# Altium integrated library Maxim Supervisors, Voltage Monitors and Sequencers.IntLib: 631 symbols (part 2 of 13)
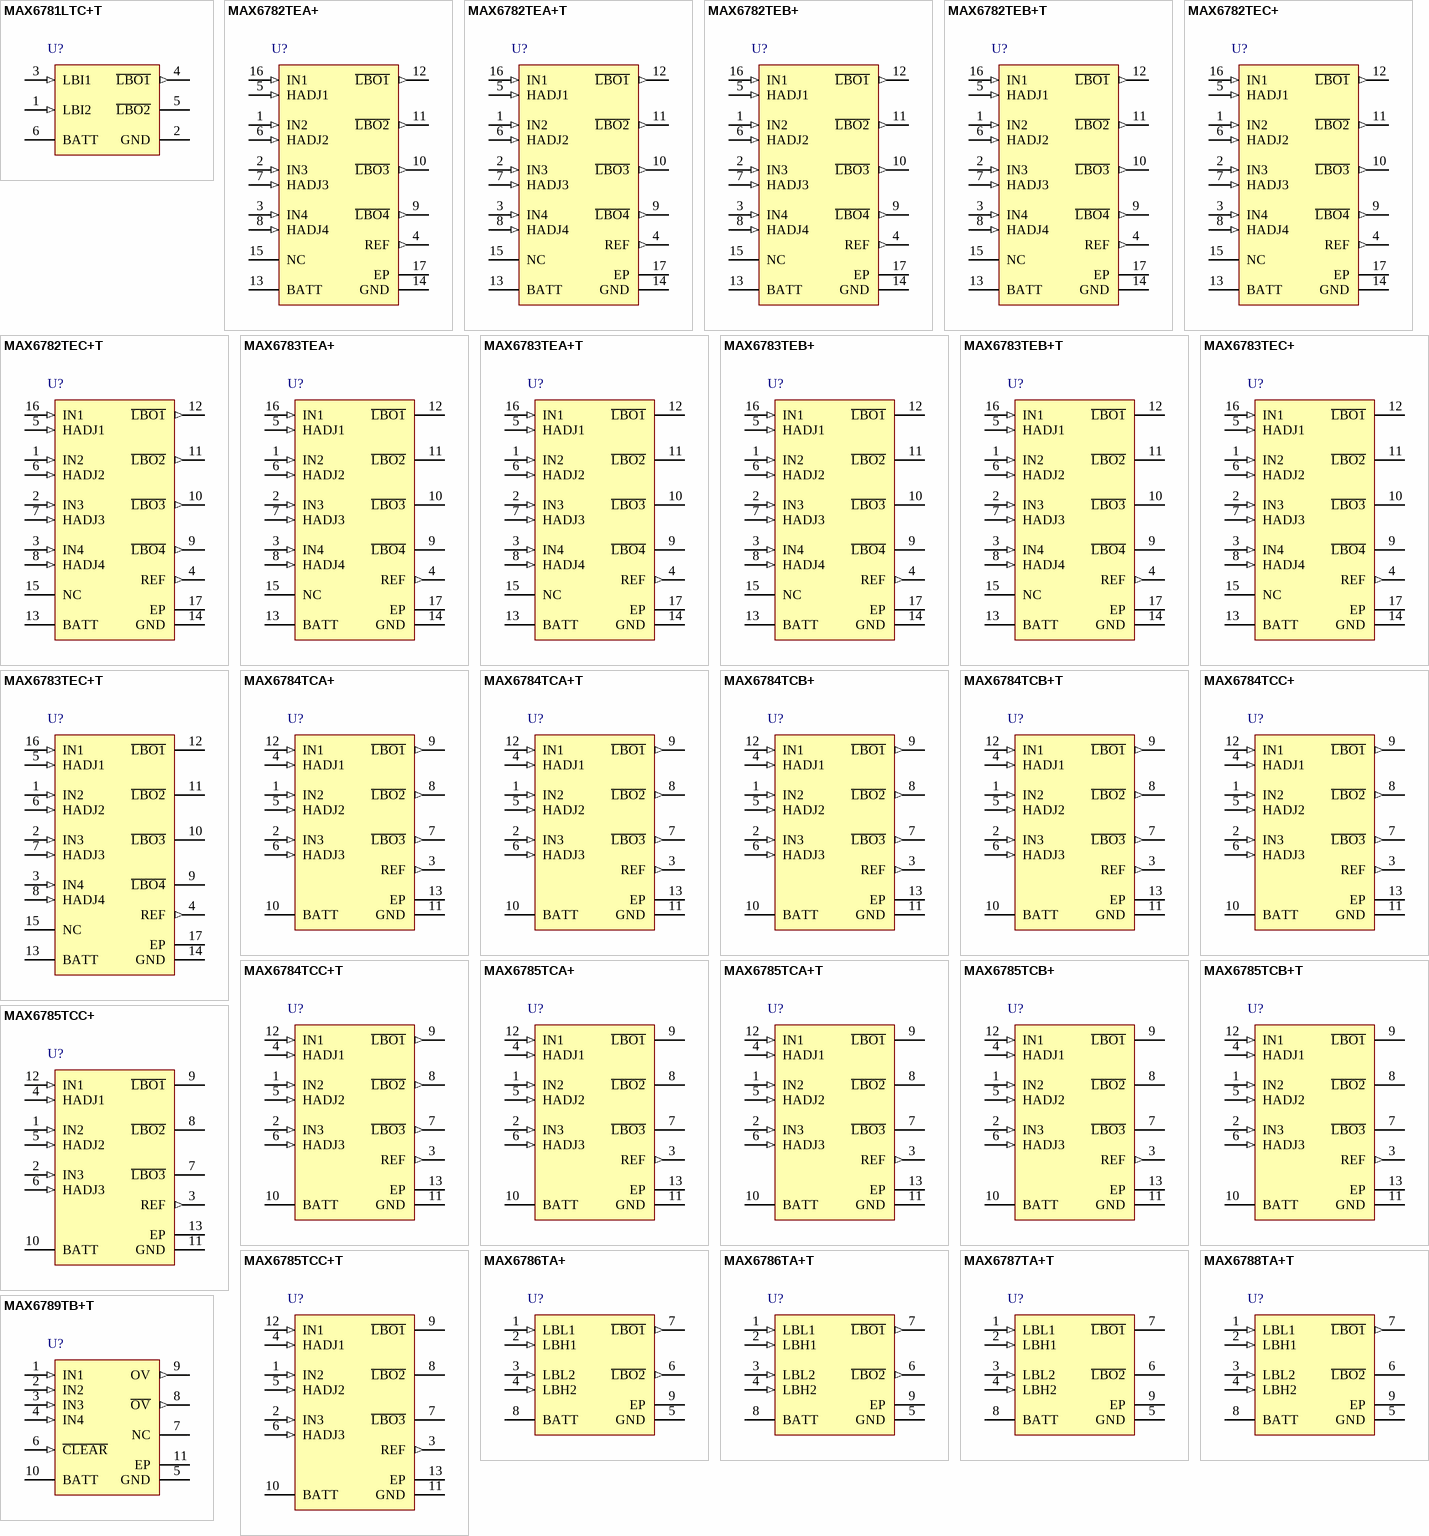
[diagram p18: symbols MAX6781LTC+T to MAX6789TB+T]

## MAX6782TEC+T
designator U?
Low-Power, 1% Accurate, Quad LBO output Level Battery Monitor, Push-Pull output, Fixed/Adj hysteresis, 16-Pin TQFN, -40°C to +85°C, Pb-Free, Tape and Reel; DatasheetVersion: Rev 3, Mar-2010; PackageVersion: revJ, 2010; PackageReference: T1633+4; PackageDescription: 16-Pin Thin Quad Flatpack, No Leads, 3 x 3 x 0.75 mm Body, 0.5 mm Pitch, TQFN, Pb-Free; Code_JEDEC: MO-220WEED-2; ComponentLink1Description: Manufacturer URL; ComponentLink1URL: http://www.maxim-ic.com; ComponentLink2Description: Datasheet; ComponentLink2URL: http://datasheets.maxim-ic.com/en/ds/MAX6782-MAX6790.pdf; ComponentLink3Description: Package Specification; ComponentLink3URL: http://pdfserv.maxim-ic.com/package_dwgs/21-0136.PDF
footprint T1633+4_N (QFN, 16-Leads, Body 3x3mm, Pitch 0.5mm, Thermal Pad 1.1x1.1mm, IPC Medium Density)
footprint T1633+4_L (QFN, 16-Leads, Body 3x3mm, Pitch 0.5mm, Thermal Pad 1.1x1.1mm, IPC High Density)
footprint T1633+4_M (QFN, 16-Leads, Body 3x3mm, Pitch 0.5mm, Thermal Pad 1.1x1.1mm, IPC Low Density)
pins: 1 IN2 (in), 2 IN3 (in), 3 IN4 (in), 4 REF (out), 5 HADJ1 (in), 6 HADJ2 (in), 7 HADJ3 (in), 8 HADJ4 (in), 9 ~{LBO4} (out), 10 ~{LBO3} (out), 11 ~{LBO2} (out), 12 ~{LBO1} (out), 13 BATT (power), 14 GND (power), 15 NC, 16 IN1 (in), 17 EP (power)

## MAX6783TEA+
designator U?
Low-Power, 1% Accurate, Quad LBO output Level Battery Monitor, Open Drain output, Fixed/Adj hysteresis, 16-Pin TQFN, -40°C to +85°C, Pb-Free; DatasheetVersion: Rev 3, Mar-2010; PackageVersion: revJ, 2010; PackageReference: T1633+4; PackageDescription: 16-Pin Thin Quad Flatpack, No Leads, 3 x 3 x 0.75 mm Body, 0.5 mm Pitch, TQFN, Pb-Free; Code_JEDEC: MO-220WEED-2; ComponentLink1Description: Manufacturer URL; ComponentLink1URL: http://www.maxim-ic.com; ComponentLink2Description: Datasheet; ComponentLink2URL: http://datasheets.maxim-ic.com/en/ds/MAX6782-MAX6790.pdf; ComponentLink3Description: Package Specification; ComponentLink3URL: http://pdfserv.maxim-ic.com/package_dwgs/21-0136.PDF
footprint T1633+4_N (QFN, 16-Leads, Body 3x3mm, Pitch 0.5mm, Thermal Pad 1.1x1.1mm, IPC Medium Density)
footprint T1633+4_L (QFN, 16-Leads, Body 3x3mm, Pitch 0.5mm, Thermal Pad 1.1x1.1mm, IPC High Density)
footprint T1633+4_M (QFN, 16-Leads, Body 3x3mm, Pitch 0.5mm, Thermal Pad 1.1x1.1mm, IPC Low Density)
pins: 1 IN2 (in), 2 IN3 (in), 3 IN4 (in), 4 REF (out), 5 HADJ1 (in), 6 HADJ2 (in), 7 HADJ3 (in), 8 HADJ4 (in), 9 ~{LBO4} (oc), 10 ~{LBO3} (oc), 11 ~{LBO2} (oc), 12 ~{LBO1} (oc), 13 BATT (power), 14 GND (power), 15 NC, 16 IN1 (in), 17 EP (power)

## MAX6783TEA+T
designator U?
Low-Power, 1% Accurate, Quad LBO output Level Battery Monitor, Open Drain output, Fixed/Adj hysteresis, 16-Pin TQFN, -40°C to +85°C, Pb-Free, Tape and Reel; DatasheetVersion: Rev 3, Mar-2010; PackageVersion: revJ, 2010; PackageReference: T1633+4; PackageDescription: 16-Pin Thin Quad Flatpack, No Leads, 3 x 3 x 0.75 mm Body, 0.5 mm Pitch, TQFN, Pb-Free; Code_JEDEC: MO-220WEED-2; ComponentLink1Description: Manufacturer URL; ComponentLink1URL: http://www.maxim-ic.com; ComponentLink2Description: Datasheet; ComponentLink2URL: http://datasheets.maxim-ic.com/en/ds/MAX6782-MAX6790.pdf; ComponentLink3Description: Package Specification; ComponentLink3URL: http://pdfserv.maxim-ic.com/package_dwgs/21-0136.PDF
footprint T1633+4_N (QFN, 16-Leads, Body 3x3mm, Pitch 0.5mm, Thermal Pad 1.1x1.1mm, IPC Medium Density)
footprint T1633+4_L (QFN, 16-Leads, Body 3x3mm, Pitch 0.5mm, Thermal Pad 1.1x1.1mm, IPC High Density)
footprint T1633+4_M (QFN, 16-Leads, Body 3x3mm, Pitch 0.5mm, Thermal Pad 1.1x1.1mm, IPC Low Density)
pins: 1 IN2 (in), 2 IN3 (in), 3 IN4 (in), 4 REF (out), 5 HADJ1 (in), 6 HADJ2 (in), 7 HADJ3 (in), 8 HADJ4 (in), 9 ~{LBO4} (oc), 10 ~{LBO3} (oc), 11 ~{LBO2} (oc), 12 ~{LBO1} (oc), 13 BATT (power), 14 GND (power), 15 NC, 16 IN1 (in), 17 EP (power)

## MAX6783TEB+
designator U?
Low-Power, 1% Accurate, Quad LBO output Level Battery Monitor, Open Drain output, Fixed/Adj hysteresis, 16-Pin TQFN, -40°C to +85°C, Pb-Free; DatasheetVersion: Rev 3, Mar-2010; PackageVersion: revJ, 2010; PackageReference: T1633+4; PackageDescription: 16-Pin Thin Quad Flatpack, No Leads, 3 x 3 x 0.75 mm Body, 0.5 mm Pitch, TQFN, Pb-Free; Code_JEDEC: MO-220WEED-2; ComponentLink1Description: Manufacturer URL; ComponentLink1URL: http://www.maxim-ic.com; ComponentLink2Description: Datasheet; ComponentLink2URL: http://datasheets.maxim-ic.com/en/ds/MAX6782-MAX6790.pdf; ComponentLink3Description: Package Specification; ComponentLink3URL: http://pdfserv.maxim-ic.com/package_dwgs/21-0136.PDF
footprint T1633+4_N (QFN, 16-Leads, Body 3x3mm, Pitch 0.5mm, Thermal Pad 1.1x1.1mm, IPC Medium Density)
footprint T1633+4_L (QFN, 16-Leads, Body 3x3mm, Pitch 0.5mm, Thermal Pad 1.1x1.1mm, IPC High Density)
footprint T1633+4_M (QFN, 16-Leads, Body 3x3mm, Pitch 0.5mm, Thermal Pad 1.1x1.1mm, IPC Low Density)
pins: 1 IN2 (in), 2 IN3 (in), 3 IN4 (in), 4 REF (out), 5 HADJ1 (in), 6 HADJ2 (in), 7 HADJ3 (in), 8 HADJ4 (in), 9 ~{LBO4} (oc), 10 ~{LBO3} (oc), 11 ~{LBO2} (oc), 12 ~{LBO1} (oc), 13 BATT (power), 14 GND (power), 15 NC, 16 IN1 (in), 17 EP (power)

## MAX6783TEB+T
designator U?
Low-Power, 1% Accurate, Quad LBO output Level Battery Monitor, Open Drain output, Fixed/Adj hysteresis, 16-Pin TQFN, -40°C to +85°C, Pb-Free, Tape and Reel; DatasheetVersion: Rev 3, Mar-2010; PackageVersion: revJ, 2010; PackageReference: T1633+4; PackageDescription: 16-Pin Thin Quad Flatpack, No Leads, 3 x 3 x 0.75 mm Body, 0.5 mm Pitch, TQFN, Pb-Free; Code_JEDEC: MO-220WEED-2; ComponentLink1Description: Manufacturer URL; ComponentLink1URL: http://www.maxim-ic.com; ComponentLink2Description: Datasheet; ComponentLink2URL: http://datasheets.maxim-ic.com/en/ds/MAX6782-MAX6790.pdf; ComponentLink3Description: Package Specification; ComponentLink3URL: http://pdfserv.maxim-ic.com/package_dwgs/21-0136.PDF
footprint T1633+4_N (QFN, 16-Leads, Body 3x3mm, Pitch 0.5mm, Thermal Pad 1.1x1.1mm, IPC Medium Density)
footprint T1633+4_L (QFN, 16-Leads, Body 3x3mm, Pitch 0.5mm, Thermal Pad 1.1x1.1mm, IPC High Density)
footprint T1633+4_M (QFN, 16-Leads, Body 3x3mm, Pitch 0.5mm, Thermal Pad 1.1x1.1mm, IPC Low Density)
pins: 1 IN2 (in), 2 IN3 (in), 3 IN4 (in), 4 REF (out), 5 HADJ1 (in), 6 HADJ2 (in), 7 HADJ3 (in), 8 HADJ4 (in), 9 ~{LBO4} (oc), 10 ~{LBO3} (oc), 11 ~{LBO2} (oc), 12 ~{LBO1} (oc), 13 BATT (power), 14 GND (power), 15 NC, 16 IN1 (in), 17 EP (power)

## MAX6783TEC+
designator U?
Low-Power, 1% Accurate, Quad LBO output Level Battery Monitor, Open Drain output, Fixed/Adj hysteresis, 16-Pin TQFN, -40°C to +85°C, Pb-Free; DatasheetVersion: Rev 3, Mar-2010; PackageVersion: revJ, 2010; PackageReference: T1633+4; PackageDescription: 16-Pin Thin Quad Flatpack, No Leads, 3 x 3 x 0.75 mm Body, 0.5 mm Pitch, TQFN, Pb-Free; Code_JEDEC: MO-220WEED-2; ComponentLink1Description: Manufacturer URL; ComponentLink1URL: http://www.maxim-ic.com; ComponentLink2Description: Datasheet; ComponentLink2URL: http://datasheets.maxim-ic.com/en/ds/MAX6782-MAX6790.pdf; ComponentLink3Description: Package Specification; ComponentLink3URL: http://pdfserv.maxim-ic.com/package_dwgs/21-0136.PDF
footprint T1633+4_N (QFN, 16-Leads, Body 3x3mm, Pitch 0.5mm, Thermal Pad 1.1x1.1mm, IPC Medium Density)
footprint T1633+4_L (QFN, 16-Leads, Body 3x3mm, Pitch 0.5mm, Thermal Pad 1.1x1.1mm, IPC High Density)
footprint T1633+4_M (QFN, 16-Leads, Body 3x3mm, Pitch 0.5mm, Thermal Pad 1.1x1.1mm, IPC Low Density)
pins: 1 IN2 (in), 2 IN3 (in), 3 IN4 (in), 4 REF (out), 5 HADJ1 (in), 6 HADJ2 (in), 7 HADJ3 (in), 8 HADJ4 (in), 9 ~{LBO4} (oc), 10 ~{LBO3} (oc), 11 ~{LBO2} (oc), 12 ~{LBO1} (oc), 13 BATT (power), 14 GND (power), 15 NC, 16 IN1 (in), 17 EP (power)

## MAX6783TEC+T
designator U?
Low-Power, 1% Accurate, Quad LBO output Level Battery Monitor, Open Drain output, Fixed/Adj hysteresis, 16-Pin TQFN, -40°C to +85°C, Pb-Free, Tape and Reel; DatasheetVersion: Rev 3, Mar-2010; PackageVersion: revJ, 2010; PackageReference: T1633+4; PackageDescription: 16-Pin Thin Quad Flatpack, No Leads, 3 x 3 x 0.75 mm Body, 0.5 mm Pitch, TQFN, Pb-Free; Code_JEDEC: MO-220WEED-2; ComponentLink1Description: Manufacturer URL; ComponentLink1URL: http://www.maxim-ic.com; ComponentLink2Description: Datasheet; ComponentLink2URL: http://datasheets.maxim-ic.com/en/ds/MAX6782-MAX6790.pdf; ComponentLink3Description: Package Specification; ComponentLink3URL: http://pdfserv.maxim-ic.com/package_dwgs/21-0136.PDF
footprint T1633+4_N (QFN, 16-Leads, Body 3x3mm, Pitch 0.5mm, Thermal Pad 1.1x1.1mm, IPC Medium Density)
footprint T1633+4_L (QFN, 16-Leads, Body 3x3mm, Pitch 0.5mm, Thermal Pad 1.1x1.1mm, IPC High Density)
footprint T1633+4_M (QFN, 16-Leads, Body 3x3mm, Pitch 0.5mm, Thermal Pad 1.1x1.1mm, IPC Low Density)
pins: 1 IN2 (in), 2 IN3 (in), 3 IN4 (in), 4 REF (out), 5 HADJ1 (in), 6 HADJ2 (in), 7 HADJ3 (in), 8 HADJ4 (in), 9 ~{LBO4} (oc), 10 ~{LBO3} (oc), 11 ~{LBO2} (oc), 12 ~{LBO1} (oc), 13 BATT (power), 14 GND (power), 15 NC, 16 IN1 (in), 17 EP (power)

## MAX6784TCA+
designator U?
Low-Power, 1% Accurate, Triple LBO output Level Battery Monitor, Push-Pull output, Fixed/Adj hysteresis, 12-Pin TQFN-EP, -40°C to +85°C, Pb-Free; DatasheetVersion: Rev 3, Mar-2010; PackageVersion: revJ, 2010; PackageReference: T1233+1; PackageDescription: 12-Pin Thin Quad Flatpack, No Leads, 3 x 3 x 0.75 mm Body, 0.5 mm Pitch, TQFN, Pb-Free; Code_JEDEC: MO-220WEED-1; ComponentLink1Description: Manufacturer URL; ComponentLink1URL: http://www.maxim-ic.com; ComponentLink2Description: Datasheet; ComponentLink2URL: http://datasheets.maxim-ic.com/en/ds/MAX6782-MAX6790.pdf; ComponentLink3Description: Package Specification; ComponentLink3URL: http://pdfserv.maxim-ic.com/package_dwgs/21-0136.PDF
footprint T1233+1_N (QFN, 12-Leads, Body 3x3mm, Pitch 0.5mm, Thermal Pad 1.1x1.1mm, IPC Medium Density)
footprint T1233+1_L (QFN, 12-Leads, Body 3x3mm, Pitch 0.5mm, Thermal Pad 1.1x1.1mm, IPC High Density)
footprint T1233+1_M (QFN, 12-Leads, Body 3x3mm, Pitch 0.5mm, Thermal Pad 1.1x1.1mm, IPC Low Density)
pins: 1 IN2 (in), 2 IN3 (in), 3 REF (out), 4 HADJ1 (in), 5 HADJ2 (in), 6 HADJ3 (in), 7 ~{LBO3} (out), 8 ~{LBO2} (out), 9 ~{LBO1} (out), 10 BATT (power), 11 GND (power), 12 IN1 (in), 13 EP (power)

## MAX6784TCA+T
designator U?
Low-Power, 1% Accurate, Triple LBO output Level Battery Monitor, Push-Pull output, Fixed/Adj hysteresis, 12-Pin TQFN-EP, -40°C to +85°C, Pb-Free, Tape and Reel; DatasheetVersion: Rev 3, Mar-2010; PackageVersion: revJ, 2010; PackageReference: T1233+1; PackageDescription: 12-Pin Thin Quad Flatpack, No Leads, 3 x 3 x 0.75 mm Body, 0.5 mm Pitch, TQFN, Pb-Free; Code_JEDEC: MO-220WEED-1; ComponentLink1Description: Manufacturer URL; ComponentLink1URL: http://www.maxim-ic.com; ComponentLink2Description: Datasheet; ComponentLink2URL: http://datasheets.maxim-ic.com/en/ds/MAX6782-MAX6790.pdf; ComponentLink3Description: Package Specification; ComponentLink3URL: http://pdfserv.maxim-ic.com/package_dwgs/21-0136.PDF
footprint T1233+1_N (QFN, 12-Leads, Body 3x3mm, Pitch 0.5mm, Thermal Pad 1.1x1.1mm, IPC Medium Density)
footprint T1233+1_L (QFN, 12-Leads, Body 3x3mm, Pitch 0.5mm, Thermal Pad 1.1x1.1mm, IPC High Density)
footprint T1233+1_M (QFN, 12-Leads, Body 3x3mm, Pitch 0.5mm, Thermal Pad 1.1x1.1mm, IPC Low Density)
pins: 1 IN2 (in), 2 IN3 (in), 3 REF (out), 4 HADJ1 (in), 5 HADJ2 (in), 6 HADJ3 (in), 7 ~{LBO3} (out), 8 ~{LBO2} (out), 9 ~{LBO1} (out), 10 BATT (power), 11 GND (power), 12 IN1 (in), 13 EP (power)

## MAX6784TCB+
designator U?
Low-Power, 1% Accurate, Triple LBO output Level Battery Monitor, Push-Pull output, Fixed/Adj hysteresis, 12-Pin TQFN-EP, -40°C to +85°C, Pb-Free; DatasheetVersion: Rev 3, Mar-2010; PackageVersion: revJ, 2010; PackageReference: T1233+1; PackageDescription: 12-Pin Thin Quad Flatpack, No Leads, 3 x 3 x 0.75 mm Body, 0.5 mm Pitch, TQFN, Pb-Free; Code_JEDEC: MO-220WEED-1; ComponentLink1Description: Manufacturer URL; ComponentLink1URL: http://www.maxim-ic.com; ComponentLink2Description: Datasheet; ComponentLink2URL: http://datasheets.maxim-ic.com/en/ds/MAX6782-MAX6790.pdf; ComponentLink3Description: Package Specification; ComponentLink3URL: http://pdfserv.maxim-ic.com/package_dwgs/21-0136.PDF
footprint T1233+1_N (QFN, 12-Leads, Body 3x3mm, Pitch 0.5mm, Thermal Pad 1.1x1.1mm, IPC Medium Density)
footprint T1233+1_L (QFN, 12-Leads, Body 3x3mm, Pitch 0.5mm, Thermal Pad 1.1x1.1mm, IPC High Density)
footprint T1233+1_M (QFN, 12-Leads, Body 3x3mm, Pitch 0.5mm, Thermal Pad 1.1x1.1mm, IPC Low Density)
pins: 1 IN2 (in), 2 IN3 (in), 3 REF (out), 4 HADJ1 (in), 5 HADJ2 (in), 6 HADJ3 (in), 7 ~{LBO3} (out), 8 ~{LBO2} (out), 9 ~{LBO1} (out), 10 BATT (power), 11 GND (power), 12 IN1 (in), 13 EP (power)

## MAX6784TCB+T
designator U?
Low-Power, 1% Accurate, Triple LBO output Level Battery Monitor, Push-Pull output, Fixed/Adj hysteresis, 12-Pin TQFN-EP, -40°C to +85°C, Pb-Free, Tape and Reel; DatasheetVersion: Rev 3, Mar-2010; PackageVersion: revJ, 2010; PackageReference: T1233+1; PackageDescription: 12-Pin Thin Quad Flatpack, No Leads, 3 x 3 x 0.75 mm Body, 0.5 mm Pitch, TQFN, Pb-Free; Code_JEDEC: MO-220WEED-1; ComponentLink1Description: Manufacturer URL; ComponentLink1URL: http://www.maxim-ic.com; ComponentLink2Description: Datasheet; ComponentLink2URL: http://datasheets.maxim-ic.com/en/ds/MAX6782-MAX6790.pdf; ComponentLink3Description: Package Specification; ComponentLink3URL: http://pdfserv.maxim-ic.com/package_dwgs/21-0136.PDF
footprint T1233+1_N (QFN, 12-Leads, Body 3x3mm, Pitch 0.5mm, Thermal Pad 1.1x1.1mm, IPC Medium Density)
footprint T1233+1_L (QFN, 12-Leads, Body 3x3mm, Pitch 0.5mm, Thermal Pad 1.1x1.1mm, IPC High Density)
footprint T1233+1_M (QFN, 12-Leads, Body 3x3mm, Pitch 0.5mm, Thermal Pad 1.1x1.1mm, IPC Low Density)
pins: 1 IN2 (in), 2 IN3 (in), 3 REF (out), 4 HADJ1 (in), 5 HADJ2 (in), 6 HADJ3 (in), 7 ~{LBO3} (out), 8 ~{LBO2} (out), 9 ~{LBO1} (out), 10 BATT (power), 11 GND (power), 12 IN1 (in), 13 EP (power)

## MAX6784TCC+
designator U?
Low-Power, 1% Accurate, Triple LBO output Level Battery Monitor, Push-Pull output, Fixed/Adj hysteresis, 12-Pin TQFN-EP, -40°C to +85°C, Pb-Free; DatasheetVersion: Rev 3, Mar-2010; PackageVersion: revJ, 2010; PackageReference: T1233+1; PackageDescription: 12-Pin Thin Quad Flatpack, No Leads, 3 x 3 x 0.75 mm Body, 0.5 mm Pitch, TQFN, Pb-Free; Code_JEDEC: MO-220WEED-1; ComponentLink1Description: Manufacturer URL; ComponentLink1URL: http://www.maxim-ic.com; ComponentLink2Description: Datasheet; ComponentLink2URL: http://datasheets.maxim-ic.com/en/ds/MAX6782-MAX6790.pdf; ComponentLink3Description: Package Specification; ComponentLink3URL: http://pdfserv.maxim-ic.com/package_dwgs/21-0136.PDF
footprint T1233+1_N (QFN, 12-Leads, Body 3x3mm, Pitch 0.5mm, Thermal Pad 1.1x1.1mm, IPC Medium Density)
footprint T1233+1_L (QFN, 12-Leads, Body 3x3mm, Pitch 0.5mm, Thermal Pad 1.1x1.1mm, IPC High Density)
footprint T1233+1_M (QFN, 12-Leads, Body 3x3mm, Pitch 0.5mm, Thermal Pad 1.1x1.1mm, IPC Low Density)
pins: 1 IN2 (in), 2 IN3 (in), 3 REF (out), 4 HADJ1 (in), 5 HADJ2 (in), 6 HADJ3 (in), 7 ~{LBO3} (out), 8 ~{LBO2} (out), 9 ~{LBO1} (out), 10 BATT (power), 11 GND (power), 12 IN1 (in), 13 EP (power)

## MAX6784TCC+T
designator U?
Low-Power, 1% Accurate, Triple LBO output Level Battery Monitor, Push-Pull output, Fixed/Adj hysteresis, 12-Pin TQFN-EP, -40°C to +85°C, Pb-Free, Tape and Reel; DatasheetVersion: Rev 3, Mar-2010; PackageVersion: revJ, 2010; PackageReference: T1233+1; PackageDescription: 12-Pin Thin Quad Flatpack, No Leads, 3 x 3 x 0.75 mm Body, 0.5 mm Pitch, TQFN, Pb-Free; Code_JEDEC: MO-220WEED-1; ComponentLink1Description: Manufacturer URL; ComponentLink1URL: http://www.maxim-ic.com; ComponentLink2Description: Datasheet; ComponentLink2URL: http://datasheets.maxim-ic.com/en/ds/MAX6782-MAX6790.pdf; ComponentLink3Description: Package Specification; ComponentLink3URL: http://pdfserv.maxim-ic.com/package_dwgs/21-0136.PDF
footprint T1233+1_N (QFN, 12-Leads, Body 3x3mm, Pitch 0.5mm, Thermal Pad 1.1x1.1mm, IPC Medium Density)
footprint T1233+1_L (QFN, 12-Leads, Body 3x3mm, Pitch 0.5mm, Thermal Pad 1.1x1.1mm, IPC High Density)
footprint T1233+1_M (QFN, 12-Leads, Body 3x3mm, Pitch 0.5mm, Thermal Pad 1.1x1.1mm, IPC Low Density)
pins: 1 IN2 (in), 2 IN3 (in), 3 REF (out), 4 HADJ1 (in), 5 HADJ2 (in), 6 HADJ3 (in), 7 ~{LBO3} (out), 8 ~{LBO2} (out), 9 ~{LBO1} (out), 10 BATT (power), 11 GND (power), 12 IN1 (in), 13 EP (power)

## MAX6785TCA+
designator U?
Low-Power, 1% Accurate, Triple LBO output Level Battery Monitor, Open Drain output, Fixed/Adj hysteresis, 12-Pin TQFN-EP, -40°C to +85°C, Pb-Free; DatasheetVersion: Rev 3, Mar-2010; PackageVersion: revJ, 2010; PackageReference: T1233+1; PackageDescription: 12-Pin Thin Quad Flatpack, No Leads, 3 x 3 x 0.75 mm Body, 0.5 mm Pitch, TQFN, Pb-Free; Code_JEDEC: MO-220WEED-1; ComponentLink1Description: Manufacturer URL; ComponentLink1URL: http://www.maxim-ic.com; ComponentLink2Description: Datasheet; ComponentLink2URL: http://datasheets.maxim-ic.com/en/ds/MAX6782-MAX6790.pdf; ComponentLink3Description: Package Specification; ComponentLink3URL: http://pdfserv.maxim-ic.com/package_dwgs/21-0136.PDF
footprint T1233+1_N (QFN, 12-Leads, Body 3x3mm, Pitch 0.5mm, Thermal Pad 1.1x1.1mm, IPC Medium Density)
footprint T1233+1_L (QFN, 12-Leads, Body 3x3mm, Pitch 0.5mm, Thermal Pad 1.1x1.1mm, IPC High Density)
footprint T1233+1_M (QFN, 12-Leads, Body 3x3mm, Pitch 0.5mm, Thermal Pad 1.1x1.1mm, IPC Low Density)
pins: 1 IN2 (in), 2 IN3 (in), 3 REF (out), 4 HADJ1 (in), 5 HADJ2 (in), 6 HADJ3 (in), 7 ~{LBO3} (oc), 8 ~{LBO2} (oc), 9 ~{LBO1} (oc), 10 BATT (power), 11 GND (power), 12 IN1 (in), 13 EP (power)

## MAX6785TCA+T
designator U?
Low-Power, 1% Accurate, Triple LBO output Level Battery Monitor, Open Drain output, Fixed/Adj hysteresis, 12-Pin TQFN-EP, -40°C to +85°C, Pb-Free, Tape and Reel; DatasheetVersion: Rev 3, Mar-2010; PackageVersion: revJ, 2010; PackageReference: T1233+1; PackageDescription: 12-Pin Thin Quad Flatpack, No Leads, 3 x 3 x 0.75 mm Body, 0.5 mm Pitch, TQFN, Pb-Free; Code_JEDEC: MO-220WEED-1; ComponentLink1Description: Manufacturer URL; ComponentLink1URL: http://www.maxim-ic.com; ComponentLink2Description: Datasheet; ComponentLink2URL: http://datasheets.maxim-ic.com/en/ds/MAX6782-MAX6790.pdf; ComponentLink3Description: Package Specification; ComponentLink3URL: http://pdfserv.maxim-ic.com/package_dwgs/21-0136.PDF
footprint T1233+1_N (QFN, 12-Leads, Body 3x3mm, Pitch 0.5mm, Thermal Pad 1.1x1.1mm, IPC Medium Density)
footprint T1233+1_L (QFN, 12-Leads, Body 3x3mm, Pitch 0.5mm, Thermal Pad 1.1x1.1mm, IPC High Density)
footprint T1233+1_M (QFN, 12-Leads, Body 3x3mm, Pitch 0.5mm, Thermal Pad 1.1x1.1mm, IPC Low Density)
pins: 1 IN2 (in), 2 IN3 (in), 3 REF (out), 4 HADJ1 (in), 5 HADJ2 (in), 6 HADJ3 (in), 7 ~{LBO3} (oc), 8 ~{LBO2} (oc), 9 ~{LBO1} (oc), 10 BATT (power), 11 GND (power), 12 IN1 (in), 13 EP (power)

## MAX6785TCB+
designator U?
Low-Power, 1% Accurate, Triple LBO output Level Battery Monitor, Open Drain output, Fixed/Adj hysteresis, 12-Pin TQFN-EP, -40°C to +85°C, Pb-Free; DatasheetVersion: Rev 3, Mar-2010; PackageVersion: revJ, 2010; PackageReference: T1233+1; PackageDescription: 12-Pin Thin Quad Flatpack, No Leads, 3 x 3 x 0.75 mm Body, 0.5 mm Pitch, TQFN, Pb-Free; Code_JEDEC: MO-220WEED-1; ComponentLink1Description: Manufacturer URL; ComponentLink1URL: http://www.maxim-ic.com; ComponentLink2Description: Datasheet; ComponentLink2URL: http://datasheets.maxim-ic.com/en/ds/MAX6782-MAX6790.pdf; ComponentLink3Description: Package Specification; ComponentLink3URL: http://pdfserv.maxim-ic.com/package_dwgs/21-0136.PDF
footprint T1233+1_N (QFN, 12-Leads, Body 3x3mm, Pitch 0.5mm, Thermal Pad 1.1x1.1mm, IPC Medium Density)
footprint T1233+1_L (QFN, 12-Leads, Body 3x3mm, Pitch 0.5mm, Thermal Pad 1.1x1.1mm, IPC High Density)
footprint T1233+1_M (QFN, 12-Leads, Body 3x3mm, Pitch 0.5mm, Thermal Pad 1.1x1.1mm, IPC Low Density)
pins: 1 IN2 (in), 2 IN3 (in), 3 REF (out), 4 HADJ1 (in), 5 HADJ2 (in), 6 HADJ3 (in), 7 ~{LBO3} (oc), 8 ~{LBO2} (oc), 9 ~{LBO1} (oc), 10 BATT (power), 11 GND (power), 12 IN1 (in), 13 EP (power)

## MAX6785TCB+T
designator U?
Low-Power, 1% Accurate, Triple LBO output Level Battery Monitor, Open Drain output, Fixed/Adj hysteresis, 12-Pin TQFN-EP, -40°C to +85°C, Pb-Free, Tape and Reel; DatasheetVersion: Rev 3, Mar-2010; PackageVersion: revJ, 2010; PackageReference: T1233+1; PackageDescription: 12-Pin Thin Quad Flatpack, No Leads, 3 x 3 x 0.75 mm Body, 0.5 mm Pitch, TQFN, Pb-Free; Code_JEDEC: MO-220WEED-1; ComponentLink1Description: Manufacturer URL; ComponentLink1URL: http://www.maxim-ic.com; ComponentLink2Description: Datasheet; ComponentLink2URL: http://datasheets.maxim-ic.com/en/ds/MAX6782-MAX6790.pdf; ComponentLink3Description: Package Specification; ComponentLink3URL: http://pdfserv.maxim-ic.com/package_dwgs/21-0136.PDF
footprint T1233+1_N (QFN, 12-Leads, Body 3x3mm, Pitch 0.5mm, Thermal Pad 1.1x1.1mm, IPC Medium Density)
footprint T1233+1_L (QFN, 12-Leads, Body 3x3mm, Pitch 0.5mm, Thermal Pad 1.1x1.1mm, IPC High Density)
footprint T1233+1_M (QFN, 12-Leads, Body 3x3mm, Pitch 0.5mm, Thermal Pad 1.1x1.1mm, IPC Low Density)
pins: 1 IN2 (in), 2 IN3 (in), 3 REF (out), 4 HADJ1 (in), 5 HADJ2 (in), 6 HADJ3 (in), 7 ~{LBO3} (oc), 8 ~{LBO2} (oc), 9 ~{LBO1} (oc), 10 BATT (power), 11 GND (power), 12 IN1 (in), 13 EP (power)

## MAX6785TCC+
designator U?
Low-Power, 1% Accurate, Triple LBO output Level Battery Monitor, Open Drain output, Fixed/Adj hysteresis, 12-Pin TQFN-EP, -40°C to +85°C, Pb-Free; DatasheetVersion: Rev 3, Mar-2010; PackageVersion: revJ, 2010; PackageReference: T1233+1; PackageDescription: 12-Pin Thin Quad Flatpack, No Leads, 3 x 3 x 0.75 mm Body, 0.5 mm Pitch, TQFN, Pb-Free; Code_JEDEC: MO-220WEED-1; ComponentLink1Description: Manufacturer URL; ComponentLink1URL: http://www.maxim-ic.com; ComponentLink2Description: Datasheet; ComponentLink2URL: http://datasheets.maxim-ic.com/en/ds/MAX6782-MAX6790.pdf; ComponentLink3Description: Package Specification; ComponentLink3URL: http://pdfserv.maxim-ic.com/package_dwgs/21-0136.PDF
footprint T1233+1_N (QFN, 12-Leads, Body 3x3mm, Pitch 0.5mm, Thermal Pad 1.1x1.1mm, IPC Medium Density)
footprint T1233+1_L (QFN, 12-Leads, Body 3x3mm, Pitch 0.5mm, Thermal Pad 1.1x1.1mm, IPC High Density)
footprint T1233+1_M (QFN, 12-Leads, Body 3x3mm, Pitch 0.5mm, Thermal Pad 1.1x1.1mm, IPC Low Density)
pins: 1 IN2 (in), 2 IN3 (in), 3 REF (out), 4 HADJ1 (in), 5 HADJ2 (in), 6 HADJ3 (in), 7 ~{LBO3} (oc), 8 ~{LBO2} (oc), 9 ~{LBO1} (oc), 10 BATT (power), 11 GND (power), 12 IN1 (in), 13 EP (power)

## MAX6785TCC+T
designator U?
Low-Power, 1% Accurate, Triple LBO output Level Battery Monitor, Open Drain output, Fixed/Adj hysteresis, 12-Pin TQFN-EP, -40°C to +85°C, Pb-Free, Tape and Reel; DatasheetVersion: Rev 3, Mar-2010; PackageVersion: revJ, 2010; PackageReference: T1233+1; PackageDescription: 12-Pin Thin Quad Flatpack, No Leads, 3 x 3 x 0.75 mm Body, 0.5 mm Pitch, TQFN, Pb-Free; Code_JEDEC: MO-220WEED-1; ComponentLink1Description: Manufacturer URL; ComponentLink1URL: http://www.maxim-ic.com; ComponentLink2Description: Datasheet; ComponentLink2URL: http://datasheets.maxim-ic.com/en/ds/MAX6782-MAX6790.pdf; ComponentLink3Description: Package Specification; ComponentLink3URL: http://pdfserv.maxim-ic.com/package_dwgs/21-0136.PDF
footprint T1233+1_N (QFN, 12-Leads, Body 3x3mm, Pitch 0.5mm, Thermal Pad 1.1x1.1mm, IPC Medium Density)
footprint T1233+1_L (QFN, 12-Leads, Body 3x3mm, Pitch 0.5mm, Thermal Pad 1.1x1.1mm, IPC High Density)
footprint T1233+1_M (QFN, 12-Leads, Body 3x3mm, Pitch 0.5mm, Thermal Pad 1.1x1.1mm, IPC Low Density)
pins: 1 IN2 (in), 2 IN3 (in), 3 REF (out), 4 HADJ1 (in), 5 HADJ2 (in), 6 HADJ3 (in), 7 ~{LBO3} (oc), 8 ~{LBO2} (oc), 9 ~{LBO1} (oc), 10 BATT (power), 11 GND (power), 12 IN1 (in), 13 EP (power)

## MAX6786TA+
designator U?
Low-Power, 1% Accurate, Dual LBO output Level Battery Monitor, Push-Pull output, Adj hysteresis, 8-Pin TDFN, -40°C to +85°C, Pb-Free; DatasheetVersion: Rev 3, Mar-2010; PackageVersion: revJ, 2009; PackageReference: T833+3; PackageDescription: 8-Pin Plastic Very Very Thin Dual Flatpack No Leads, Exposed Pad, 3 x 3 x 0.8 mm Body, TDFN-EP, Pb-Free; Code_JEDEC: MO-229-WEEC; ComponentLink1Description: Manufacturer URL; ComponentLink1URL: http://www.maxim-ic.com; ComponentLink2Description: Datasheet; ComponentLink2URL: http://datasheets.maxim-ic.com/en/ds/MAX6782-MAX6790.pdf; ComponentLink3Description: Package Specification; ComponentLink3URL: http://pdfserv.maxim-ic.com/package_dwgs/21-0137.PDF
footprint T833+3 (SON, 8-Leads, Body 3x3 mm, Pitch 0.65mm, Thermal Pad 2.35x1.58mm, Maxim Recommended)
pins: 1 LBL1 (in), 2 LBH1 (in), 3 LBL2 (in), 4 LBH2 (in), 5 GND (power), 6 ~{LBO2} (out), 7 ~{LBO1} (out), 8 BATT (power), 9 EP (power)

## MAX6786TA+T
designator U?
Low-Power, 1% Accurate, Dual LBO output Level Battery Monitor, Push-Pull output, Adj hysteresis, 8-Pin TDFN, -40°C to +85°C, Pb-Free, Tape and Reel; DatasheetVersion: Rev 3, Mar-2010; PackageVersion: revJ, 2009; PackageReference: T833+3; PackageDescription: 8-Pin Plastic Very Very Thin Dual Flatpack No Leads, Exposed Pad, 3 x 3 x 0.8 mm Body, TDFN-EP, Pb-Free; Code_JEDEC: MO-229-WEEC; ComponentLink1Description: Manufacturer URL; ComponentLink1URL: http://www.maxim-ic.com; ComponentLink2Description: Datasheet; ComponentLink2URL: http://datasheets.maxim-ic.com/en/ds/MAX6782-MAX6790.pdf; ComponentLink3Description: Package Specification; ComponentLink3URL: http://pdfserv.maxim-ic.com/package_dwgs/21-0137.PDF
footprint T833+3 (SON, 8-Leads, Body 3x3 mm, Pitch 0.65mm, Thermal Pad 2.35x1.58mm, Maxim Recommended)
pins: 1 LBL1 (in), 2 LBH1 (in), 3 LBL2 (in), 4 LBH2 (in), 5 GND (power), 6 ~{LBO2} (out), 7 ~{LBO1} (out), 8 BATT (power), 9 EP (power)

## MAX6787TA+T
designator U?
Low-Power, 1% Accurate, Dual LBO output Level Battery Monitor, Open Drain output, Adj hysteresis, 8-Pin TDFN, -40°C to +85°C, Pb-Free, Tape and Reel; DatasheetVersion: Rev 3, Mar-2010; PackageVersion: revJ, 2009; PackageReference: T833+3; PackageDescription: 8-Pin Plastic Very Very Thin Dual Flatpack No Leads, Exposed Pad, 3 x 3 x 0.8 mm Body, TDFN-EP, Pb-Free; Code_JEDEC: MO-229-WEEC; ComponentLink1Description: Manufacturer URL; ComponentLink1URL: http://www.maxim-ic.com; ComponentLink2Description: Datasheet; ComponentLink2URL: http://datasheets.maxim-ic.com/en/ds/MAX6782-MAX6790.pdf; ComponentLink3Description: Package Specification; ComponentLink3URL: http://pdfserv.maxim-ic.com/package_dwgs/21-0137.PDF
footprint T833+3 (SON, 8-Leads, Body 3x3 mm, Pitch 0.65mm, Thermal Pad 2.35x1.58mm, Maxim Recommended)
pins: 1 LBL1 (in), 2 LBH1 (in), 3 LBL2 (in), 4 LBH2 (in), 5 GND (power), 6 ~{LBO2} (oc), 7 ~{LBO1} (oc), 8 BATT (power), 9 EP (power)

## MAX6788TA+T
designator U?
Low-Power, 1% Accurate, Dual LBO output Level Battery Monitor, Push-Pull/Open Drain output, Adj hysteresis, 8-Pin TDFN, -40°C to +85°C, Pb-Free, Tape and Reel; DatasheetVersion: Rev 3, Mar-2010; PackageVersion: revJ, 2009; PackageReference: T833+3; PackageDescription: 8-Pin Plastic Very Very Thin Dual Flatpack No Leads, Exposed Pad, 3 x 3 x 0.8 mm Body, TDFN-EP, Pb-Free; Code_JEDEC: MO-229-WEEC; ComponentLink1Description: Manufacturer URL; ComponentLink1URL: http://www.maxim-ic.com; ComponentLink2Description: Datasheet; ComponentLink2URL: http://datasheets.maxim-ic.com/en/ds/MAX6782-MAX6790.pdf; ComponentLink3Description: Package Specification; ComponentLink3URL: http://pdfserv.maxim-ic.com/package_dwgs/21-0137.PDF
footprint T833+3 (SON, 8-Leads, Body 3x3 mm, Pitch 0.65mm, Thermal Pad 2.35x1.58mm, Maxim Recommended)
pins: 1 LBL1 (in), 2 LBH1 (in), 3 LBL2 (in), 4 LBH2 (in), 5 GND (power), 6 ~{LBO2} (oc), 7 ~{LBO1} (out), 8 BATT (power), 9 EP (power)

## MAX6789TB+T
designator U?
Low-Power, 1% Accurate, Level Battery Monitor, Push-Pull output, 10-Pin TDFN-EP, -40°C to +85°C, Pb-Free, Tape and Reel; DatasheetVersion: Rev 3, Mar-2010; PackageVersion: revJ, 2009; PackageReference: T1033+1; PackageDescription: 10-Pin Plastic Very Very Thin Dual Flatpack No Leads, Exposed Pad, 3 x 3 x 0.8 mm Body, TDFN-EP, Pb-Free; Code_JEDEC: MO-229-WEED-3; ComponentLink1Description: Manufacturer URL; ComponentLink1URL: http://www.maxim-ic.com; ComponentLink2Description: Datasheet; ComponentLink2URL: http://datasheets.maxim-ic.com/en/ds/MAX6782-MAX6790.pdf; ComponentLink3Description: Package Specification; ComponentLink3URL: http://pdfserv.maxim-ic.com/package_dwgs/21-0137.PDF
footprint T1033+1_V (SON, 10-Leads, Body 3x3mm, Pitch 0.5mm, Thermal Pad 2.35x1.58mm, Maxim Recommended)
pins: 1 IN1 (in), 2 IN2 (in), 3 IN3 (in), 4 IN4 (in), 5 GND (power), 6 ~{CLEAR} (in), 7 NC, 8 ~{OV} (out), 9 OV (out), 10 BATT (power), 11 EP (power)

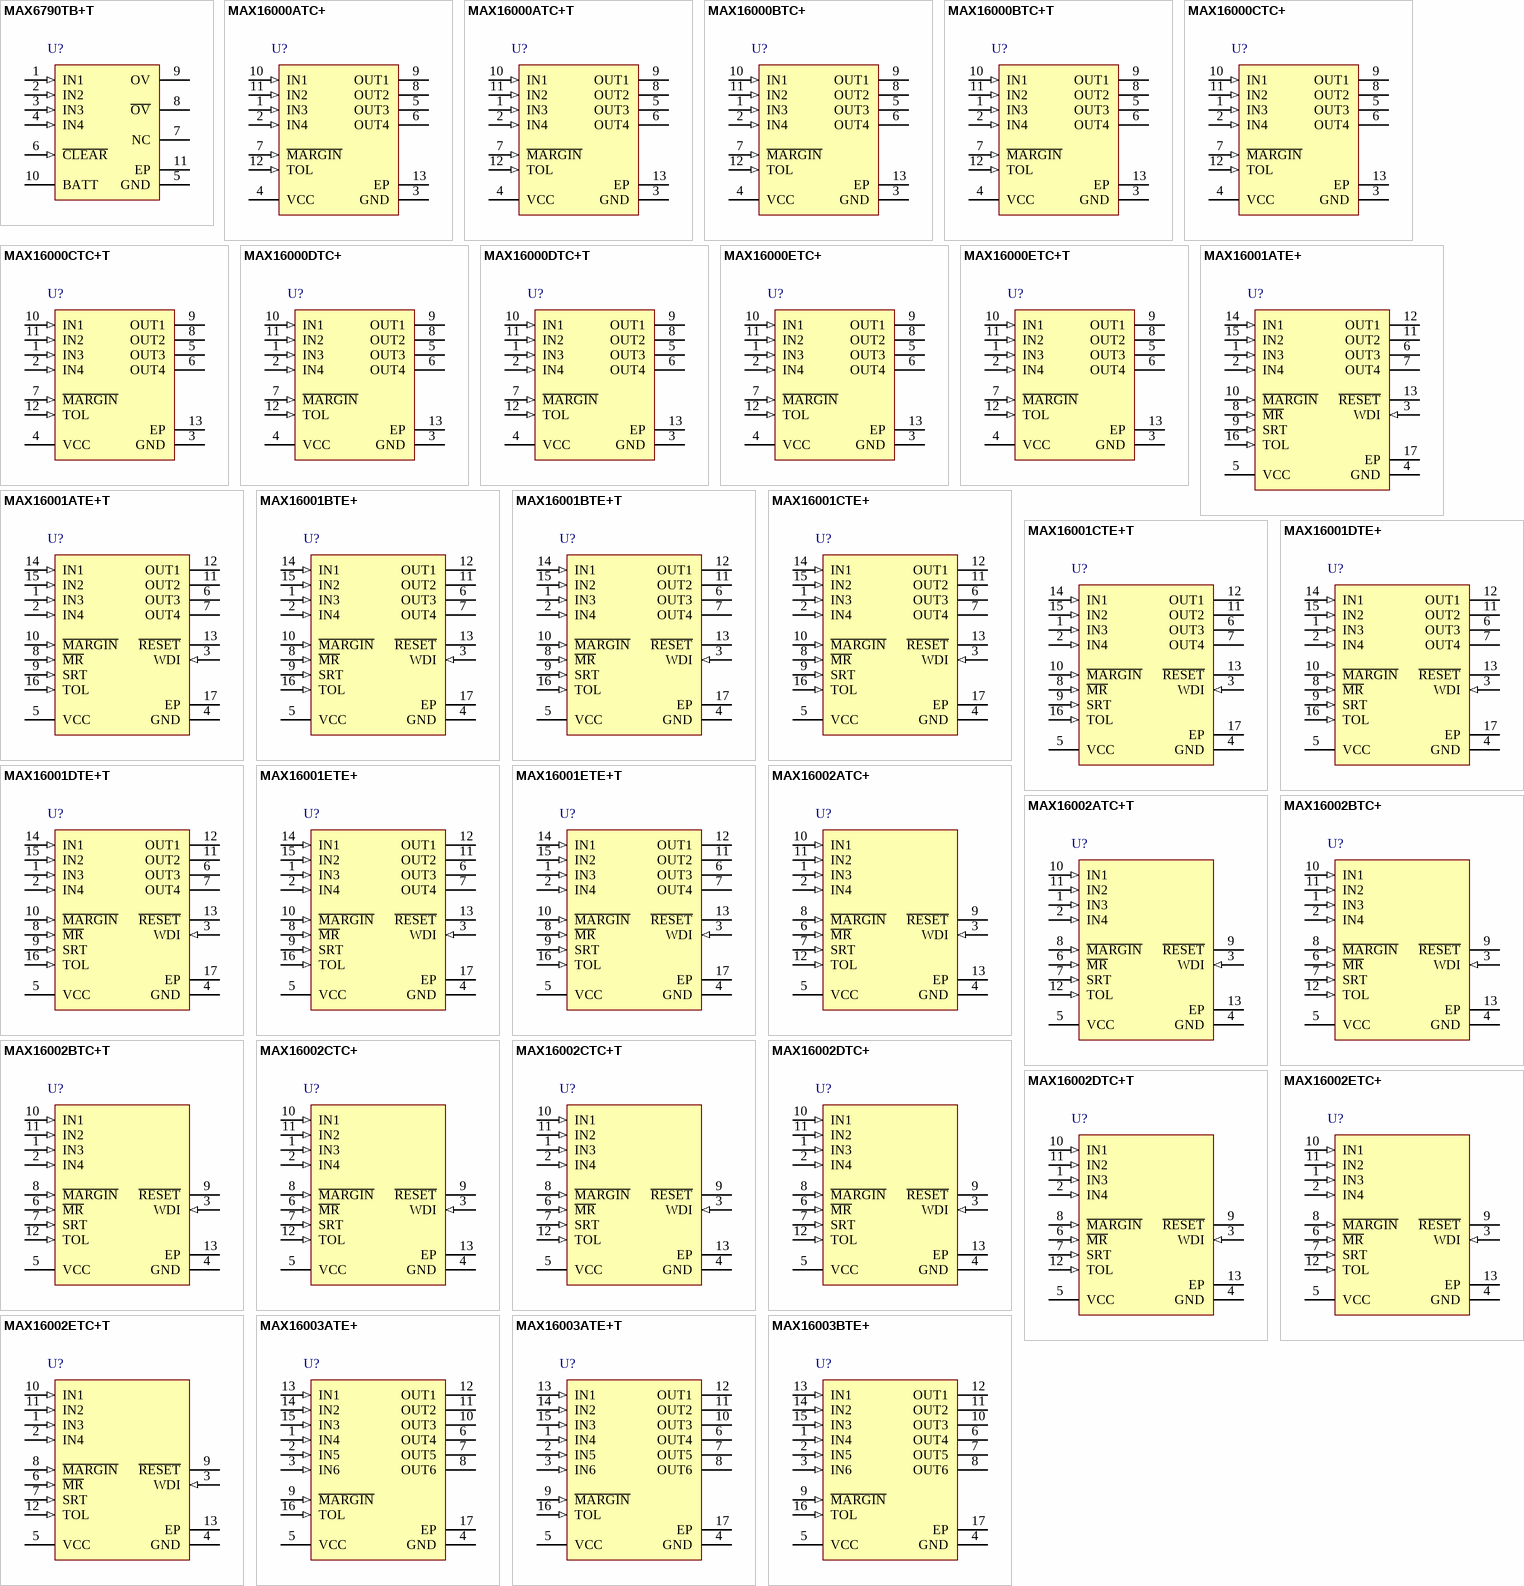
[diagram p2: symbols MAX6790TB+T to MAX16003BTE+]

## MAX6790TB+T
designator U?
Low-Power, 1% Accurate, Level Battery Monitor, Open Drain output, 10-Pin TDFN-EP, -40°C to +85°C, Pb-Free, Tape and Reel; DatasheetVersion: Rev 3, Mar-2010; PackageVersion: revJ, 2009; PackageReference: T1033+2; PackageDescription: 10-Pin Plastic Very Very Thin Dual Flatpack No Leads, Exposed Pad, 3 x 3 x 0.8 mm Body, TDFN-EP, Pb-Free; Code_JEDEC: MO-229-WEED-3; ComponentLink1Description: Manufacturer URL; ComponentLink1URL: http://www.maxim-ic.com; ComponentLink2Description: Datasheet; ComponentLink2URL: http://datasheets.maxim-ic.com/en/ds/MAX6782-MAX6790.pdf; ComponentLink3Description: Package Specification; ComponentLink3URL: http://pdfserv.maxim-ic.com/package_dwgs/21-0137.PDF
footprint T1033+2_V (SON, 10-Leads, Body 3x3mm, Pitch 0.5mm, Thermal Pad 2.35x1.58mm, Maxim Recommended)
footprint  T1033+2_N (SON, 10-Leads, Body 3x3mm, Pitch 0.5mm, Thermal Pad 2.3x1.5mm, IPC Medium Density)
footprint  T1033+2_L (SON, 10-Leads, Body 3x3mm, Pitch 0.5mm, Thermal Pad 2.3x1.5mm, IPC High Density)
footprint  T1033+2_M (SON, 10-Leads, Body 3x3mm, Pitch 0.5mm, Thermal Pad 2.3x1.5mm, IPC Low Density)
pins: 1 IN1 (in), 2 IN2 (in), 3 IN3 (in), 4 IN4 (in), 5 GND (power), 6 ~{CLEAR} (in), 7 NC, 8 ~{OV} (oc), 9 OV (oc), 10 BATT (power), 11 EP (power)

## MAX16000ATC+
designator U?
Low-Voltage, Quad-Voltage uP Supervisor , 4 outputs, 12-Pin TQFN-EP, -40°C to +125°C, Pb-Free; DatasheetVersion: Rev 5, Oct-2010; PackageVersion: revJ, 2011; PackageReference: T1244+4; PackageDescription: 12-Pin Thin Quad Flatpack, No Leads, 4 x 4 x 0.75 mm Body, 0.8 mm Pitch, TQFN, Pb-Free; Code_JEDEC: MO-220WGGB; ComponentLink1Description: Manufacturer URL; ComponentLink1URL: http://www.maxim-ic.com; ComponentLink2Description: Datasheet; ComponentLink2URL: http://datasheets.maxim-ic.com/en/ds/MAX16000-MAX16007.pdf; ComponentLink3Description: Package Specification; ComponentLink3URL: http://pdfserv.maxim-ic.com/package_dwgs/21-0139.PDF
footprint T1244+4_V (QFN, 12-Leads, Body 4x4mm, Pitch 0.8mm, Thermal Pad 2.23x2.23mm, Maxim Recommended)
pins: 1 IN3 (in), 2 IN4 (in), 3 GND (power), 4 VCC (power), 5 OUT3 (oc), 6 OUT4 (oc), 7 ~{MARGIN} (in), 8 OUT2 (oc), 9 OUT1 (oc), 10 IN1 (in), 11 IN2 (in), 12 TOL (in), 13 EP (power)

## MAX16000ATC+T
designator U?
Low-Voltage, Quad-Voltage uP Supervisor , 4 outputs, 12-Pin TQFN-EP, -40°C to +125°C, Pb-Free, Tape and Reel; DatasheetVersion: Rev 5, Oct-2010; PackageVersion: revJ, 2011; PackageReference: T1244+4; PackageDescription: 12-Pin Thin Quad Flatpack, No Leads, 4 x 4 x 0.75 mm Body, 0.8 mm Pitch, TQFN, Pb-Free; Code_JEDEC: MO-220WGGB; ComponentLink1Description: Manufacturer URL; ComponentLink1URL: http://www.maxim-ic.com; ComponentLink2Description: Datasheet; ComponentLink2URL: http://datasheets.maxim-ic.com/en/ds/MAX16000-MAX16007.pdf; ComponentLink3Description: Package Specification; ComponentLink3URL: http://pdfserv.maxim-ic.com/package_dwgs/21-0139.PDF
footprint T1244+4_V (QFN, 12-Leads, Body 4x4mm, Pitch 0.8mm, Thermal Pad 2.23x2.23mm, Maxim Recommended)
pins: 1 IN3 (in), 2 IN4 (in), 3 GND (power), 4 VCC (power), 5 OUT3 (oc), 6 OUT4 (oc), 7 ~{MARGIN} (in), 8 OUT2 (oc), 9 OUT1 (oc), 10 IN1 (in), 11 IN2 (in), 12 TOL (in), 13 EP (power)

## MAX16000BTC+
designator U?
Low-Voltage, Quad-Voltage uP Supervisor , 4 outputs, 12-Pin TQFN-EP, -40°C to +125°C, Pb-Free; DatasheetVersion: Rev 5, Oct-2010; PackageVersion: revJ, 2011; PackageReference: T1244+4; PackageDescription: 12-Pin Thin Quad Flatpack, No Leads, 4 x 4 x 0.75 mm Body, 0.8 mm Pitch, TQFN, Pb-Free; Code_JEDEC: MO-220WGGB; ComponentLink1Description: Manufacturer URL; ComponentLink1URL: http://www.maxim-ic.com; ComponentLink2Description: Datasheet; ComponentLink2URL: http://datasheets.maxim-ic.com/en/ds/MAX16000-MAX16007.pdf; ComponentLink3Description: Package Specification; ComponentLink3URL: http://pdfserv.maxim-ic.com/package_dwgs/21-0139.PDF
footprint T1244+4_V (QFN, 12-Leads, Body 4x4mm, Pitch 0.8mm, Thermal Pad 2.23x2.23mm, Maxim Recommended)
pins: 1 IN3 (in), 2 IN4 (in), 3 GND (power), 4 VCC (power), 5 OUT3 (oc), 6 OUT4 (oc), 7 ~{MARGIN} (in), 8 OUT2 (oc), 9 OUT1 (oc), 10 IN1 (in), 11 IN2 (in), 12 TOL (in), 13 EP (power)

## MAX16000BTC+T
designator U?
Low-Voltage, Quad-Voltage uP Supervisor , 4 outputs, 12-Pin TQFN-EP, -40°C to +125°C, Pb-Free, Tape and Reel; DatasheetVersion: Rev 5, Oct-2010; PackageVersion: revJ, 2011; PackageReference: T1244+4; PackageDescription: 12-Pin Thin Quad Flatpack, No Leads, 4 x 4 x 0.75 mm Body, 0.8 mm Pitch, TQFN, Pb-Free; Code_JEDEC: MO-220WGGB; ComponentLink1Description: Manufacturer URL; ComponentLink1URL: http://www.maxim-ic.com; ComponentLink2Description: Datasheet; ComponentLink2URL: http://datasheets.maxim-ic.com/en/ds/MAX16000-MAX16007.pdf; ComponentLink3Description: Package Specification; ComponentLink3URL: http://pdfserv.maxim-ic.com/package_dwgs/21-0139.PDF
footprint T1244+4_V (QFN, 12-Leads, Body 4x4mm, Pitch 0.8mm, Thermal Pad 2.23x2.23mm, Maxim Recommended)
pins: 1 IN3 (in), 2 IN4 (in), 3 GND (power), 4 VCC (power), 5 OUT3 (oc), 6 OUT4 (oc), 7 ~{MARGIN} (in), 8 OUT2 (oc), 9 OUT1 (oc), 10 IN1 (in), 11 IN2 (in), 12 TOL (in), 13 EP (power)

## MAX16000CTC+
designator U?
Low-Voltage, Quad-Voltage uP Supervisor , 4 outputs, 12-Pin TQFN-EP, -40°C to +125°C, Pb-Free; DatasheetVersion: Rev 5, Oct-2010; PackageVersion: revJ, 2011; PackageReference: T1244+4; PackageDescription: 12-Pin Thin Quad Flatpack, No Leads, 4 x 4 x 0.75 mm Body, 0.8 mm Pitch, TQFN, Pb-Free; Code_JEDEC: MO-220WGGB; ComponentLink1Description: Manufacturer URL; ComponentLink1URL: http://www.maxim-ic.com; ComponentLink2Description: Datasheet; ComponentLink2URL: http://datasheets.maxim-ic.com/en/ds/MAX16000-MAX16007.pdf; ComponentLink3Description: Package Specification; ComponentLink3URL: http://pdfserv.maxim-ic.com/package_dwgs/21-0139.PDF
footprint T1244+4_V (QFN, 12-Leads, Body 4x4mm, Pitch 0.8mm, Thermal Pad 2.23x2.23mm, Maxim Recommended)
pins: 1 IN3 (in), 2 IN4 (in), 3 GND (power), 4 VCC (power), 5 OUT3 (oc), 6 OUT4 (oc), 7 ~{MARGIN} (in), 8 OUT2 (oc), 9 OUT1 (oc), 10 IN1 (in), 11 IN2 (in), 12 TOL (in), 13 EP (power)

## MAX16000CTC+T
designator U?
Low-Voltage, Quad-Voltage uP Supervisor , 4 outputs, 12-Pin TQFN-EP, -40°C to +125°C, Pb-Free, Tape and Reel; DatasheetVersion: Rev 5, Oct-2010; PackageVersion: revJ, 2011; PackageReference: T1244+4; PackageDescription: 12-Pin Thin Quad Flatpack, No Leads, 4 x 4 x 0.75 mm Body, 0.8 mm Pitch, TQFN, Pb-Free; Code_JEDEC: MO-220WGGB; ComponentLink1Description: Manufacturer URL; ComponentLink1URL: http://www.maxim-ic.com; ComponentLink2Description: Datasheet; ComponentLink2URL: http://datasheets.maxim-ic.com/en/ds/MAX16000-MAX16007.pdf; ComponentLink3Description: Package Specification; ComponentLink3URL: http://pdfserv.maxim-ic.com/package_dwgs/21-0139.PDF
footprint T1244+4_V (QFN, 12-Leads, Body 4x4mm, Pitch 0.8mm, Thermal Pad 2.23x2.23mm, Maxim Recommended)
pins: 1 IN3 (in), 2 IN4 (in), 3 GND (power), 4 VCC (power), 5 OUT3 (oc), 6 OUT4 (oc), 7 ~{MARGIN} (in), 8 OUT2 (oc), 9 OUT1 (oc), 10 IN1 (in), 11 IN2 (in), 12 TOL (in), 13 EP (power)

## MAX16000DTC+
designator U?
Low-Voltage, Quad-Voltage uP Supervisor , 4 outputs, 12-Pin TQFN-EP, -40°C to +125°C, Pb-Free; DatasheetVersion: Rev 5, Oct-2010; PackageVersion: revJ, 2011; PackageReference: T1244+4; PackageDescription: 12-Pin Thin Quad Flatpack, No Leads, 4 x 4 x 0.75 mm Body, 0.8 mm Pitch, TQFN, Pb-Free; Code_JEDEC: MO-220WGGB; ComponentLink1Description: Manufacturer URL; ComponentLink1URL: http://www.maxim-ic.com; ComponentLink2Description: Datasheet; ComponentLink2URL: http://datasheets.maxim-ic.com/en/ds/MAX16000-MAX16007.pdf; ComponentLink3Description: Package Specification; ComponentLink3URL: http://pdfserv.maxim-ic.com/package_dwgs/21-0139.PDF
footprint T1244+4_V (QFN, 12-Leads, Body 4x4mm, Pitch 0.8mm, Thermal Pad 2.23x2.23mm, Maxim Recommended)
pins: 1 IN3 (in), 2 IN4 (in), 3 GND (power), 4 VCC (power), 5 OUT3 (oc), 6 OUT4 (oc), 7 ~{MARGIN} (in), 8 OUT2 (oc), 9 OUT1 (oc), 10 IN1 (in), 11 IN2 (in), 12 TOL (in), 13 EP (power)

## MAX16000DTC+T
designator U?
Low-Voltage, Quad-Voltage uP Supervisor , 4 outputs, 12-Pin TQFN-EP, -40°C to +125°C, Pb-Free, Tape and Reel; DatasheetVersion: Rev 5, Oct-2010; PackageVersion: revJ, 2011; PackageReference: T1244+4; PackageDescription: 12-Pin Thin Quad Flatpack, No Leads, 4 x 4 x 0.75 mm Body, 0.8 mm Pitch, TQFN, Pb-Free; Code_JEDEC: MO-220WGGB; ComponentLink1Description: Manufacturer URL; ComponentLink1URL: http://www.maxim-ic.com; ComponentLink2Description: Datasheet; ComponentLink2URL: http://datasheets.maxim-ic.com/en/ds/MAX16000-MAX16007.pdf; ComponentLink3Description: Package Specification; ComponentLink3URL: http://pdfserv.maxim-ic.com/package_dwgs/21-0139.PDF
footprint T1244+4_V (QFN, 12-Leads, Body 4x4mm, Pitch 0.8mm, Thermal Pad 2.23x2.23mm, Maxim Recommended)
pins: 1 IN3 (in), 2 IN4 (in), 3 GND (power), 4 VCC (power), 5 OUT3 (oc), 6 OUT4 (oc), 7 ~{MARGIN} (in), 8 OUT2 (oc), 9 OUT1 (oc), 10 IN1 (in), 11 IN2 (in), 12 TOL (in), 13 EP (power)

## MAX16000ETC+
designator U?
Low-Voltage, Quad-Voltage uP Supervisor , 4 outputs, 12-Pin TQFN-EP, -40°C to +125°C, Pb-Free; DatasheetVersion: Rev 5, Oct-2010; PackageVersion: revJ, 2011; PackageReference: T1244+4; PackageDescription: 12-Pin Thin Quad Flatpack, No Leads, 4 x 4 x 0.75 mm Body, 0.8 mm Pitch, TQFN, Pb-Free; Code_JEDEC: MO-220WGGB; ComponentLink1Description: Manufacturer URL; ComponentLink1URL: http://www.maxim-ic.com; ComponentLink2Description: Datasheet; ComponentLink2URL: http://datasheets.maxim-ic.com/en/ds/MAX16000-MAX16007.pdf; ComponentLink3Description: Package Specification; ComponentLink3URL: http://pdfserv.maxim-ic.com/package_dwgs/21-0139.PDF
footprint T1244+4_V (QFN, 12-Leads, Body 4x4mm, Pitch 0.8mm, Thermal Pad 2.23x2.23mm, Maxim Recommended)
pins: 1 IN3 (in), 2 IN4 (in), 3 GND (power), 4 VCC (power), 5 OUT3 (oc), 6 OUT4 (oc), 7 ~{MARGIN} (in), 8 OUT2 (oc), 9 OUT1 (oc), 10 IN1 (in), 11 IN2 (in), 12 TOL (in), 13 EP (power)

## MAX16000ETC+T
designator U?
Low-Voltage, Quad-Voltage uP Supervisor , 4 outputs, 12-Pin TQFN-EP, -40°C to +125°C, Pb-Free, Tape and Reel; DatasheetVersion: Rev 5, Oct-2010; PackageVersion: revJ, 2011; PackageReference: T1244+4; PackageDescription: 12-Pin Thin Quad Flatpack, No Leads, 4 x 4 x 0.75 mm Body, 0.8 mm Pitch, TQFN, Pb-Free; Code_JEDEC: MO-220WGGB; ComponentLink1Description: Manufacturer URL; ComponentLink1URL: http://www.maxim-ic.com; ComponentLink2Description: Datasheet; ComponentLink2URL: http://datasheets.maxim-ic.com/en/ds/MAX16000-MAX16007.pdf; ComponentLink3Description: Package Specification; ComponentLink3URL: http://pdfserv.maxim-ic.com/package_dwgs/21-0139.PDF
footprint T1244+4_V (QFN, 12-Leads, Body 4x4mm, Pitch 0.8mm, Thermal Pad 2.23x2.23mm, Maxim Recommended)
pins: 1 IN3 (in), 2 IN4 (in), 3 GND (power), 4 VCC (power), 5 OUT3 (oc), 6 OUT4 (oc), 7 ~{MARGIN} (in), 8 OUT2 (oc), 9 OUT1 (oc), 10 IN1 (in), 11 IN2 (in), 12 TOL (in), 13 EP (power)

## MAX16001ATE+
designator U?
Low-Voltage, Quad-Voltage uP Supervisor , 4 outputs, Reset, WDI, MR, adjustable reset timout, 16-Pin TQFN-EP, -40°C to +125°C, Pb-Free; DatasheetVersion: Rev 5, Oct-2010; PackageVersion: revK, 2011; PackageReference: T1644+4; PackageDescription: 16-Pin Thin Quad Flatpack, No-Leads (TQFN), 4 x 4 x 0.75 mm Body, 0.65 mm Pitch, Exposed Pad, Pb-Free; Code_JEDEC: MO-220WGGC; ComponentLink1Description: Manufacturer URL; ComponentLink1URL: http://www.maxim-ic.com; ComponentLink2Description: Datasheet; ComponentLink2URL: http://datasheets.maxim-ic.com/en/ds/MAX16000-MAX16007.pdf; ComponentLink3Description: Package Specification; ComponentLink3URL: http://pdfserv.maxim-ic.com/package_dwgs/21-0139.PDF
footprint T1644+4_N (QFN, 16-Leads, Body 4x4mm, Pitch 0.65mm, Thermal Pad 2.3x2.3mm, IPC Medium Density)
footprint T1644+4_L (QFN, 16-Leads, Body 4x4mm, Pitch 0.65mm, Thermal Pad 2.3x2.3mm, IPC High Density)
footprint T1644+4_M (QFN, 16-Leads, Body 4x4mm, Pitch 0.65mm, Thermal Pad 2.3x2.3mm, IPC Low Density)
pins: 1 IN3 (in), 2 IN4 (in), 3 WDI (in), 4 GND (power), 5 VCC (power), 6 OUT3 (oc), 7 OUT4 (oc), 8 ~{MR} (in), 9 SRT (in), 10 ~{MARGIN} (in), 11 OUT2 (oc), 12 OUT1 (oc), 13 ~{RESET} (oc), 14 IN1 (in), 15 IN2 (in), 16 TOL (in), 17 EP (power)

## MAX16001ATE+T
designator U?
Low-Voltage, Quad-Voltage uP Supervisor , 4 outputs, Reset, WDI, MR, adjustable reset timout, 16-Pin TQFN-EP, -40°C to +125°C, Pb-Free, Tape and Reel; DatasheetVersion: Rev 5, Oct-2010; PackageVersion: revK, 2011; PackageReference: T1644+4; PackageDescription: 16-Pin Thin Quad Flatpack, No-Leads (TQFN), 4 x 4 x 0.75 mm Body, 0.65 mm Pitch, Exposed Pad, Pb-Free; Code_JEDEC: MO-220WGGC; ComponentLink1Description: Manufacturer URL; ComponentLink1URL: http://www.maxim-ic.com; ComponentLink2Description: Datasheet; ComponentLink2URL: http://datasheets.maxim-ic.com/en/ds/MAX16000-MAX16007.pdf; ComponentLink3Description: Package Specification; ComponentLink3URL: http://pdfserv.maxim-ic.com/package_dwgs/21-0139.PDF
footprint T1644+4_N (QFN, 16-Leads, Body 4x4mm, Pitch 0.65mm, Thermal Pad 2.3x2.3mm, IPC Medium Density)
footprint T1644+4_L (QFN, 16-Leads, Body 4x4mm, Pitch 0.65mm, Thermal Pad 2.3x2.3mm, IPC High Density)
footprint T1644+4_M (QFN, 16-Leads, Body 4x4mm, Pitch 0.65mm, Thermal Pad 2.3x2.3mm, IPC Low Density)
pins: 1 IN3 (in), 2 IN4 (in), 3 WDI (in), 4 GND (power), 5 VCC (power), 6 OUT3 (oc), 7 OUT4 (oc), 8 ~{MR} (in), 9 SRT (in), 10 ~{MARGIN} (in), 11 OUT2 (oc), 12 OUT1 (oc), 13 ~{RESET} (oc), 14 IN1 (in), 15 IN2 (in), 16 TOL (in), 17 EP (power)

## MAX16001BTE+
designator U?
Low-Voltage, Quad-Voltage uP Supervisor , 4 outputs, Reset, WDI, MR, adjustable reset timout, 16-Pin TQFN-EP, -40°C to +125°C, Pb-Free; DatasheetVersion: Rev 5, Oct-2010; PackageVersion: revK, 2011; PackageReference: T1644+4; PackageDescription: 16-Pin Thin Quad Flatpack, No-Leads (TQFN), 4 x 4 x 0.75 mm Body, 0.65 mm Pitch, Exposed Pad, Pb-Free; Code_JEDEC: MO-220WGGC; ComponentLink1Description: Manufacturer URL; ComponentLink1URL: http://www.maxim-ic.com; ComponentLink2Description: Datasheet; ComponentLink2URL: http://datasheets.maxim-ic.com/en/ds/MAX16000-MAX16007.pdf; ComponentLink3Description: Package Specification; ComponentLink3URL: http://pdfserv.maxim-ic.com/package_dwgs/21-0139.PDF
footprint T1644+4_N (QFN, 16-Leads, Body 4x4mm, Pitch 0.65mm, Thermal Pad 2.3x2.3mm, IPC Medium Density)
footprint T1644+4_L (QFN, 16-Leads, Body 4x4mm, Pitch 0.65mm, Thermal Pad 2.3x2.3mm, IPC High Density)
footprint T1644+4_M (QFN, 16-Leads, Body 4x4mm, Pitch 0.65mm, Thermal Pad 2.3x2.3mm, IPC Low Density)
pins: 1 IN3 (in), 2 IN4 (in), 3 WDI (in), 4 GND (power), 5 VCC (power), 6 OUT3 (oc), 7 OUT4 (oc), 8 ~{MR} (in), 9 SRT (in), 10 ~{MARGIN} (in), 11 OUT2 (oc), 12 OUT1 (oc), 13 ~{RESET} (oc), 14 IN1 (in), 15 IN2 (in), 16 TOL (in), 17 EP (power)

## MAX16001BTE+T
designator U?
Low-Voltage, Quad-Voltage uP Supervisor , 4 outputs, Reset, WDI, MR, adjustable reset timout, 16-Pin TQFN-EP, -40°C to +125°C, Pb-Free, Tape and Reel; DatasheetVersion: Rev 5, Oct-2010; PackageVersion: revK, 2011; PackageReference: T1644+4; PackageDescription: 16-Pin Thin Quad Flatpack, No-Leads (TQFN), 4 x 4 x 0.75 mm Body, 0.65 mm Pitch, Exposed Pad, Pb-Free; Code_JEDEC: MO-220WGGC; ComponentLink1Description: Manufacturer URL; ComponentLink1URL: http://www.maxim-ic.com; ComponentLink2Description: Datasheet; ComponentLink2URL: http://datasheets.maxim-ic.com/en/ds/MAX16000-MAX16007.pdf; ComponentLink3Description: Package Specification; ComponentLink3URL: http://pdfserv.maxim-ic.com/package_dwgs/21-0139.PDF
footprint T1644+4_N (QFN, 16-Leads, Body 4x4mm, Pitch 0.65mm, Thermal Pad 2.3x2.3mm, IPC Medium Density)
footprint T1644+4_L (QFN, 16-Leads, Body 4x4mm, Pitch 0.65mm, Thermal Pad 2.3x2.3mm, IPC High Density)
footprint T1644+4_M (QFN, 16-Leads, Body 4x4mm, Pitch 0.65mm, Thermal Pad 2.3x2.3mm, IPC Low Density)
pins: 1 IN3 (in), 2 IN4 (in), 3 WDI (in), 4 GND (power), 5 VCC (power), 6 OUT3 (oc), 7 OUT4 (oc), 8 ~{MR} (in), 9 SRT (in), 10 ~{MARGIN} (in), 11 OUT2 (oc), 12 OUT1 (oc), 13 ~{RESET} (oc), 14 IN1 (in), 15 IN2 (in), 16 TOL (in), 17 EP (power)

## MAX16001CTE+
designator U?
Low-Voltage, Quad-Voltage uP Supervisor , 4 outputs, Reset, WDI, MR, adjustable reset timout, 16-Pin TQFN-EP, -40°C to +125°C, Pb-Free; DatasheetVersion: Rev 5, Oct-2010; PackageVersion: revK, 2011; PackageReference: T1644+4; PackageDescription: 16-Pin Thin Quad Flatpack, No-Leads (TQFN), 4 x 4 x 0.75 mm Body, 0.65 mm Pitch, Exposed Pad, Pb-Free; Code_JEDEC: MO-220WGGC; ComponentLink1Description: Manufacturer URL; ComponentLink1URL: http://www.maxim-ic.com; ComponentLink2Description: Datasheet; ComponentLink2URL: http://datasheets.maxim-ic.com/en/ds/MAX16000-MAX16007.pdf; ComponentLink3Description: Package Specification; ComponentLink3URL: http://pdfserv.maxim-ic.com/package_dwgs/21-0139.PDF
footprint T1644+4_N (QFN, 16-Leads, Body 4x4mm, Pitch 0.65mm, Thermal Pad 2.3x2.3mm, IPC Medium Density)
footprint T1644+4_L (QFN, 16-Leads, Body 4x4mm, Pitch 0.65mm, Thermal Pad 2.3x2.3mm, IPC High Density)
footprint T1644+4_M (QFN, 16-Leads, Body 4x4mm, Pitch 0.65mm, Thermal Pad 2.3x2.3mm, IPC Low Density)
pins: 1 IN3 (in), 2 IN4 (in), 3 WDI (in), 4 GND (power), 5 VCC (power), 6 OUT3 (oc), 7 OUT4 (oc), 8 ~{MR} (in), 9 SRT (in), 10 ~{MARGIN} (in), 11 OUT2 (oc), 12 OUT1 (oc), 13 ~{RESET} (oc), 14 IN1 (in), 15 IN2 (in), 16 TOL (in), 17 EP (power)

## MAX16001CTE+T
designator U?
Low-Voltage, Quad-Voltage uP Supervisor , 4 outputs, Reset, WDI, MR, adjustable reset timout, 16-Pin TQFN-EP, -40°C to +125°C, Pb-Free, Tape and Reel; DatasheetVersion: Rev 5, Oct-2010; PackageVersion: revK, 2011; PackageReference: T1644+4; PackageDescription: 16-Pin Thin Quad Flatpack, No-Leads (TQFN), 4 x 4 x 0.75 mm Body, 0.65 mm Pitch, Exposed Pad, Pb-Free; Code_JEDEC: MO-220WGGC; ComponentLink1Description: Manufacturer URL; ComponentLink1URL: http://www.maxim-ic.com; ComponentLink2Description: Datasheet; ComponentLink2URL: http://datasheets.maxim-ic.com/en/ds/MAX16000-MAX16007.pdf; ComponentLink3Description: Package Specification; ComponentLink3URL: http://pdfserv.maxim-ic.com/package_dwgs/21-0139.PDF
footprint T1644+4_N (QFN, 16-Leads, Body 4x4mm, Pitch 0.65mm, Thermal Pad 2.3x2.3mm, IPC Medium Density)
footprint T1644+4_L (QFN, 16-Leads, Body 4x4mm, Pitch 0.65mm, Thermal Pad 2.3x2.3mm, IPC High Density)
footprint T1644+4_M (QFN, 16-Leads, Body 4x4mm, Pitch 0.65mm, Thermal Pad 2.3x2.3mm, IPC Low Density)
pins: 1 IN3 (in), 2 IN4 (in), 3 WDI (in), 4 GND (power), 5 VCC (power), 6 OUT3 (oc), 7 OUT4 (oc), 8 ~{MR} (in), 9 SRT (in), 10 ~{MARGIN} (in), 11 OUT2 (oc), 12 OUT1 (oc), 13 ~{RESET} (oc), 14 IN1 (in), 15 IN2 (in), 16 TOL (in), 17 EP (power)

## MAX16001DTE+
designator U?
Low-Voltage, Quad-Voltage uP Supervisor , 4 outputs, Reset, WDI, MR, adjustable reset timout, 16-Pin TQFN-EP, -40°C to +125°C, Pb-Free; DatasheetVersion: Rev 5, Oct-2010; PackageVersion: revK, 2011; PackageReference: T1644+4; PackageDescription: 16-Pin Thin Quad Flatpack, No-Leads (TQFN), 4 x 4 x 0.75 mm Body, 0.65 mm Pitch, Exposed Pad, Pb-Free; Code_JEDEC: MO-220WGGC; ComponentLink1Description: Manufacturer URL; ComponentLink1URL: http://www.maxim-ic.com; ComponentLink2Description: Datasheet; ComponentLink2URL: http://datasheets.maxim-ic.com/en/ds/MAX16000-MAX16007.pdf; ComponentLink3Description: Package Specification; ComponentLink3URL: http://pdfserv.maxim-ic.com/package_dwgs/21-0139.PDF
footprint T1644+4_N (QFN, 16-Leads, Body 4x4mm, Pitch 0.65mm, Thermal Pad 2.3x2.3mm, IPC Medium Density)
footprint T1644+4_L (QFN, 16-Leads, Body 4x4mm, Pitch 0.65mm, Thermal Pad 2.3x2.3mm, IPC High Density)
footprint T1644+4_M (QFN, 16-Leads, Body 4x4mm, Pitch 0.65mm, Thermal Pad 2.3x2.3mm, IPC Low Density)
pins: 1 IN3 (in), 2 IN4 (in), 3 WDI (in), 4 GND (power), 5 VCC (power), 6 OUT3 (oc), 7 OUT4 (oc), 8 ~{MR} (in), 9 SRT (in), 10 ~{MARGIN} (in), 11 OUT2 (oc), 12 OUT1 (oc), 13 ~{RESET} (oc), 14 IN1 (in), 15 IN2 (in), 16 TOL (in), 17 EP (power)